# Altium footprint library Connector_Samtec_HSEC8.PcbLib: 133 footprints (part 5 of 9)
Each footprint in its own frame and in the unit in brackets; x right, y up, seen from the top. Pads: shape width x height; smd on the part's side, far side on the other; paste and mask are expansions set on the pad; w line width, h text height; cw(c..) or ccw(c..) is an arc to the next point about the centre after c.
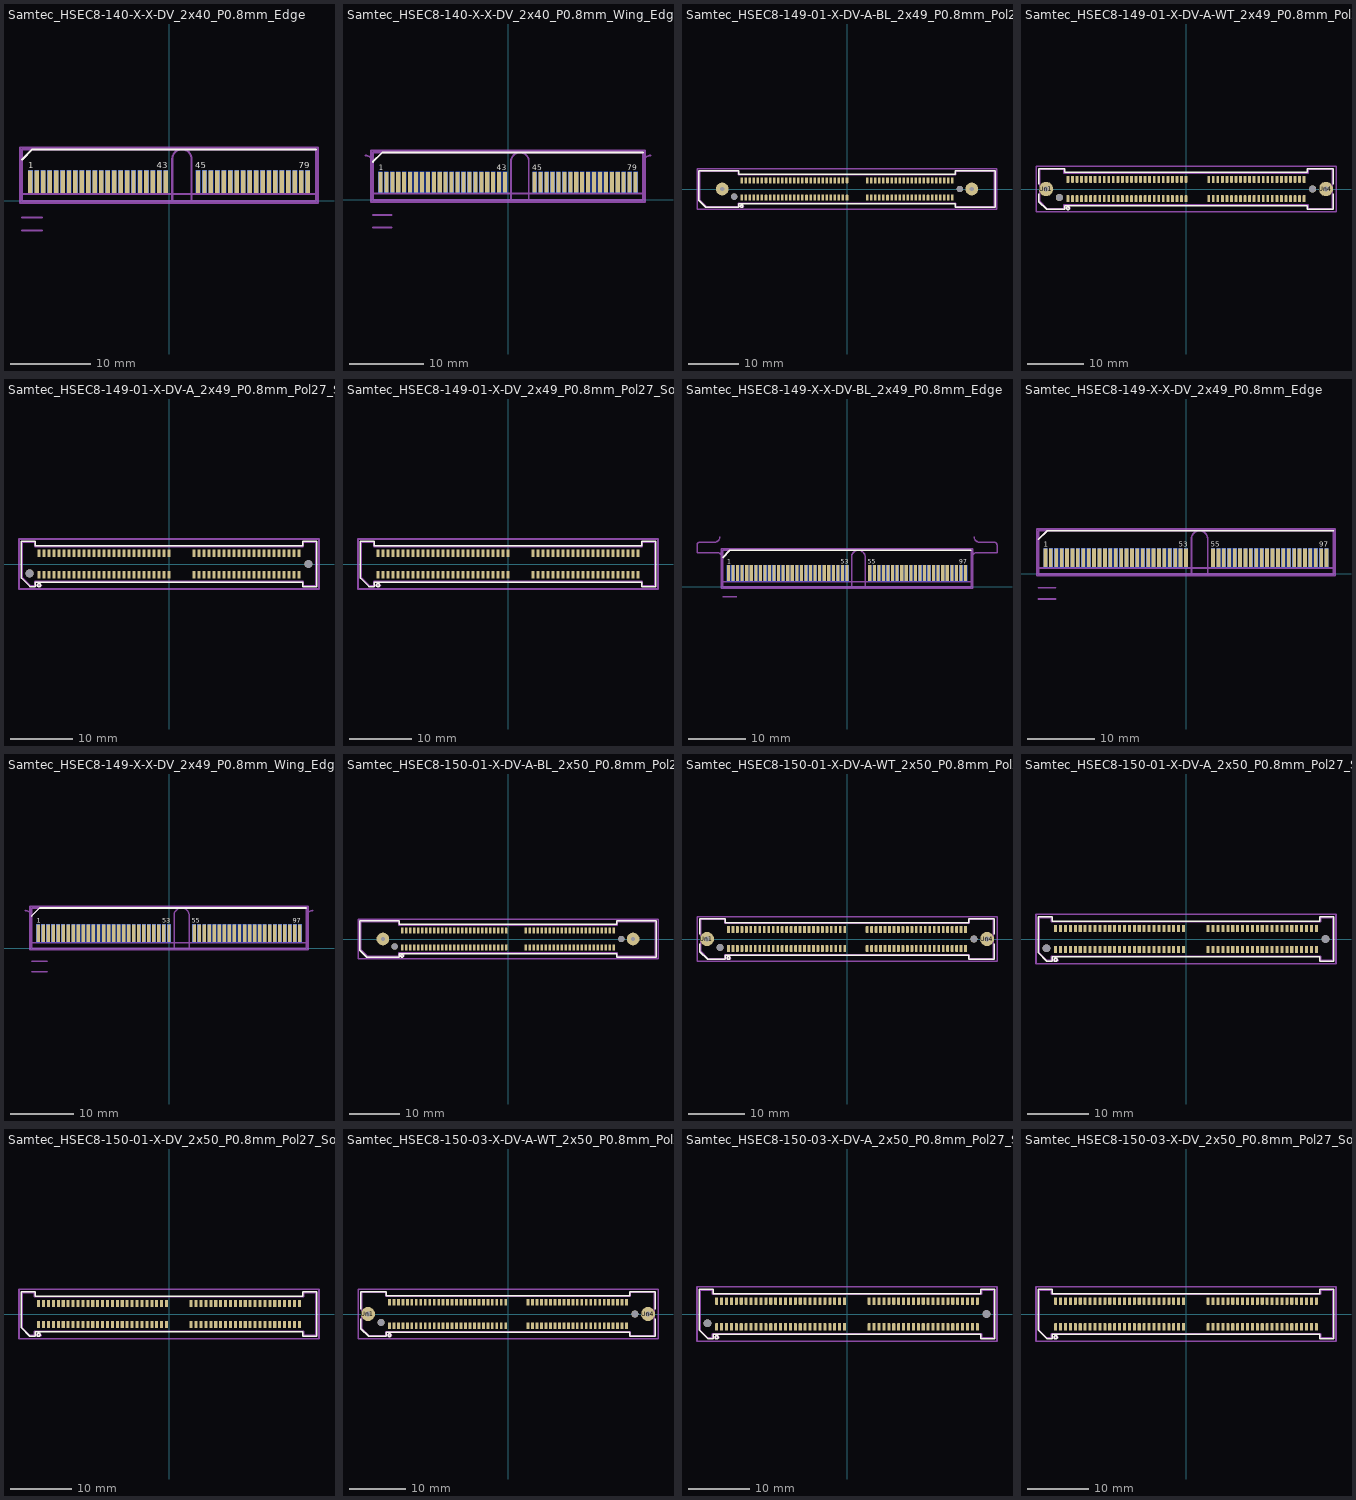
[diagram p4: the footprints below, top view; thin cyan lines are the x and y axes]

## Samtec_HSEC8-140-X-X-DV_2x40_P0.8mm_Edge [mm]
pads (80):
  rect 0.55x2.8 smd: 1(-17.2,2.4) 3(-16.4,2.4) 5(-15.6,2.4) 7(-14.8,2.4) 9(-14,2.4) 11(-13.2,2.4) 13(-12.4,2.4) 15(-11.6,2.4) 17(-10.8,2.4) 19(-10,2.4) 21(-9.2,2.4) 23(-8.4,2.4) 25(-7.6,2.4) 27(-6.8,2.4) 29(-6,2.4) 31(-5.2,2.4) 33(-4.4,2.4) 35(-3.6,2.4) 37(-2.8,2.4) 39(-2,2.4) 41(-1.2,2.4) 43(-0.4,2.4) 45(3.6,2.4) 47(4.4,2.4) 49(5.2,2.4) 51(6,2.4) 53(6.8,2.4) 55(7.6,2.4) 57(8.4,2.4) 59(9.2,2.4) 61(10,2.4) 63(10.8,2.4) 65(11.6,2.4) 67(12.4,2.4) 69(13.2,2.4) 71(14,2.4) 73(14.8,2.4) 75(15.6,2.4) 77(16.4,2.4) 79(17.2,2.4)
  rect 0.55x2.8 smd far side: 2(-17.2,2.4) 4(-16.4,2.4) 6(-15.6,2.4) 8(-14.8,2.4) 10(-14,2.4) 12(-13.2,2.4) 14(-12.4,2.4) 16(-11.6,2.4) 18(-10.8,2.4) 20(-10,2.4) 22(-9.2,2.4) 24(-8.4,2.4) 26(-7.6,2.4) 28(-6.8,2.4) 30(-6,2.4) 32(-5.2,2.4) 34(-4.4,2.4) 36(-3.6,2.4) 38(-2.8,2.4) 40(-2,2.4) 42(-1.2,2.4) 44(-0.4,2.4) 46(3.6,2.4) 48(4.4,2.4) 50(5.2,2.4) 52(6,2.4) 54(6.8,2.4) 56(7.6,2.4) 58(8.4,2.4) 60(9.2,2.4) 62(10,2.4) 64(10.8,2.4) 66(11.6,2.4) 68(12.4,2.4) 70(13.2,2.4) 72(14,2.4) 74(14.8,2.4) 76(15.6,2.4) 78(16.4,2.4) 80(17.2,2.4)
F.SilkS:
  lines w0.254: -18.225,5.13 -16.955,6.4 18.225,6.4
  text "79" at 16.109,4.025 h0.75
  text "45" at 3.241,4.025 h0.75
  text "43" at -1.509,4.025 h0.75
  text "1" at -17.439,4.025 h0.75
B.SilkS:
  lines w0.254: -18.225,6.4 18.225,6.4
  text "80" at 17.559,4.025 h0.75
  text "46" at 4.691,4.025 h0.75
  text "44" at -0.023,4.025 h0.75
  text "2" at -16.8,4.025 h0.75
Top Assembly:
  lines w0.254: -18.225,0.88 18.225,0.88 ; -18.225,0 18.225,0 18.225,6.4 -16.955,6.4 -18.225,5.13 -18.225,0
  text "'.Designator'" at -4.047,1.7 h1
Bottom Assembly:
  lines w0.254: -18.225,0.88 18.225,0.88 ; -18.225,0 18.225,0 18.225,6.4 -18.225,6.4 -18.225,0
Top Courtyard:
  lines w0.254: -18.48,-0.25 18.48,-0.25 18.48,6.65 -18.48,6.65 -18.48,-0.25
Bottom Courtyard:
  lines w0.254: -18.48,-0.25 18.48,-0.25 18.48,6.65 -18.48,6.65 -18.48,-0.25
Top Designator:
  text ".Designator" at -7.618,0.475 h1.52
Board Shape:
  lines w0.254: -18.225,5 -18.225,0 0.405,0 0.405,5.2 cw(c1.605,5.2) 2.805,5.2 2.805,0 18.225,0 18.225,5
Cmts.User:
  lines w0.254: -18.225,-3.69 -15.725,-3.69 ; -18.225,-2.05 -15.725,-2.05
  text "mated PCB distance: 3.69 mm (max)" at -15.63,-4.411 h0.75
  text "mated PCB distance: 2.05 mm (min)" at -15.63,-2.771 h0.75
  text "Chamfer 30 degree 0.45 mm" at -7.868,-0.21 h0.75

## Samtec_HSEC8-140-X-X-DV_2x40_P0.8mm_Wing_Edge [mm]
pads (80):
  rect 0.55x2.8 smd: 1(-17.2,2.4) 3(-16.4,2.4) 5(-15.6,2.4) 7(-14.8,2.4) 9(-14,2.4) 11(-13.2,2.4) 13(-12.4,2.4) 15(-11.6,2.4) 17(-10.8,2.4) 19(-10,2.4) 21(-9.2,2.4) 23(-8.4,2.4) 25(-7.6,2.4) 27(-6.8,2.4) 29(-6,2.4) 31(-5.2,2.4) 33(-4.4,2.4) 35(-3.6,2.4) 37(-2.8,2.4) 39(-2,2.4) 41(-1.2,2.4) 43(-0.4,2.4) 45(3.6,2.4) 47(4.4,2.4) 49(5.2,2.4) 51(6,2.4) 53(6.8,2.4) 55(7.6,2.4) 57(8.4,2.4) 59(9.2,2.4) 61(10,2.4) 63(10.8,2.4) 65(11.6,2.4) 67(12.4,2.4) 69(13.2,2.4) 71(14,2.4) 73(14.8,2.4) 75(15.6,2.4) 77(16.4,2.4) 79(17.2,2.4)
  rect 0.55x2.8 smd far side: 2(-17.2,2.4) 4(-16.4,2.4) 6(-15.6,2.4) 8(-14.8,2.4) 10(-14,2.4) 12(-13.2,2.4) 14(-12.4,2.4) 16(-11.6,2.4) 18(-10.8,2.4) 20(-10,2.4) 22(-9.2,2.4) 24(-8.4,2.4) 26(-7.6,2.4) 28(-6.8,2.4) 30(-6,2.4) 32(-5.2,2.4) 34(-4.4,2.4) 36(-3.6,2.4) 38(-2.8,2.4) 40(-2,2.4) 42(-1.2,2.4) 44(-0.4,2.4) 46(3.6,2.4) 48(4.4,2.4) 50(5.2,2.4) 52(6,2.4) 54(6.8,2.4) 56(7.6,2.4) 58(8.4,2.4) 60(9.2,2.4) 62(10,2.4) 64(10.8,2.4) 66(11.6,2.4) 68(12.4,2.4) 70(13.2,2.4) 72(14,2.4) 74(14.8,2.4) 76(15.6,2.4) 78(16.4,2.4) 80(17.2,2.4)
F.SilkS:
  lines w0.254: -18.225,5.13 -16.955,6.4 18.225,6.4
  text "79" at 16.109,4.025 h0.75
  text "45" at 3.241,4.025 h0.75
  text "43" at -1.509,4.025 h0.75
  text "1" at -17.439,4.025 h0.75
B.SilkS:
  lines w0.254: -18.225,6.4 18.225,6.4
  text "80" at 17.559,4.025 h0.75
  text "46" at 4.691,4.025 h0.75
  text "44" at -0.023,4.025 h0.75
  text "2" at -16.8,4.025 h0.75
Top Assembly:
  lines w0.254: -18.225,0.88 18.225,0.88 ; -18.225,0 18.225,0 18.225,6.4 -16.955,6.4 -18.225,5.13 -18.225,0
  text "'.Designator'" at -4.047,1.7 h1
Bottom Assembly:
  lines w0.254: -18.225,0.88 18.225,0.88 ; -18.225,0 18.225,0 18.225,6.4 -18.225,6.4 -18.225,0
Top Courtyard:
  lines w0.254: -18.48,-0.25 18.48,-0.25 18.48,6.65 -18.48,6.65 -18.48,-0.25
Bottom Courtyard:
  lines w0.254: -18.48,-0.25 18.48,-0.25 18.48,6.65 -18.48,6.65 -18.48,-0.25
Top Designator:
  text ".Designator" at -7.618,0.475 h1.52
Board Shape:
  lines w0.254: -19.225,6 cw(c-19.225,5) -18.225,5 -18.225,0 0.405,0 0.405,5.2 cw(c1.605,5.2) 2.805,5.2 2.805,0 18.225,0 18.225,5 cw(c19.225,5) 19.225,6
Cmts.User:
  lines w0.254: -18.225,-3.69 -15.725,-3.69 ; -18.225,-2.05 -15.725,-2.05
  text "mated PCB distance: 3.69 mm (max)" at -15.63,-4.411 h0.75
  text "mated PCB distance: 2.05 mm (min)" at -15.63,-2.771 h0.75
  text "Chamfer 30 degree 0.45 mm" at -7.868,-0.21 h0.75

## Samtec_HSEC8-149-01-X-DV-A-BL_2x49_P0.8mm_Pol27_Socket_WeldTabs_BoardLocks [mm]
pads (102):
  rrect25% 0.5x1.2 smd: 1(-20.8,-1.7) 2(-20.8,1.7) 3(-20,-1.7) 4(-20,1.7) 5(-19.2,-1.7) 6(-19.2,1.7) 7(-18.4,-1.7) 8(-18.4,1.7) 9(-17.6,-1.7) 10(-17.6,1.7) 11(-16.8,-1.7) 12(-16.8,1.7) 13(-16,-1.7) 14(-16,1.7) 15(-15.2,-1.7) 16(-15.2,1.7) 17(-14.4,-1.7) 18(-14.4,1.7) 19(-13.6,-1.7) 20(-13.6,1.7) 21(-12.8,-1.7) 22(-12.8,1.7) 23(-12,-1.7) 24(-12,1.7) 25(-11.2,-1.7) 26(-11.2,1.7) 27(-10.4,-1.7) 28(-10.4,1.7) 29(-9.6,-1.7) 30(-9.6,1.7) 31(-8.8,-1.7) 32(-8.8,1.7) 33(-8,-1.7) 34(-8,1.7) 35(-7.2,-1.7) 36(-7.2,1.7) 37(-6.4,-1.7) 38(-6.4,1.7) 39(-5.6,-1.7) 40(-5.6,1.7) 41(-4.8,-1.7) 42(-4.8,1.7) 43(-4,-1.7) 44(-4,1.7) 45(-3.2,-1.7) 46(-3.2,1.7) 47(-2.4,-1.7) 48(-2.4,1.7) 49(-1.6,-1.7) 50(-1.6,1.7) 51(-0.8,-1.7) 52(-0.8,1.7) 53(0,-1.7) 54(0,1.7) 55(4,-1.7) 56(4,1.7) 57(4.8,-1.7) 58(4.8,1.7) 59(5.6,-1.7) 60(5.6,1.7) 61(6.4,-1.7) 62(6.4,1.7) 63(7.2,-1.7) 64(7.2,1.7) 65(8,-1.7) 66(8,1.7) 67(8.8,-1.7) 68(8.8,1.7) 69(9.6,-1.7) 70(9.6,1.7) 71(10.4,-1.7) 72(10.4,1.7) 73(11.2,-1.7) 74(11.2,1.7) 75(12,-1.7) 76(12,1.7) 77(12.8,-1.7) 78(12.8,1.7) 79(13.6,-1.7) 80(13.6,1.7) 81(14.4,-1.7) 82(14.4,1.7) 83(15.2,-1.7) 84(15.2,1.7) 85(16,-1.7) 86(16,1.7) 87(16.8,-1.7) 88(16.8,1.7) 89(17.6,-1.7) 90(17.6,1.7) 91(18.4,-1.7) 92(18.4,1.7) 93(19.2,-1.7) 94(19.2,1.7) 95(20,-1.7) 96(20,1.7) 97(20.8,-1.7) 98(20.8,1.7)
  round 2.54 hole 0.84: Un1(-24.65,0) Un4(24.65,0)
  round 1.27 hole 1.27: Un2(-22.3,-1.5) Un3(22.3,0)
F.SilkS:
  circle w0.254: c-20.8,-3.4 r0.25
  lines w0.254: -29.235,-2.246 -27.871,-3.61 -21.39,-3.61 -21.39,-2.91 21.39,-2.91 21.39,-3.61 29.235,-3.61 29.235,3.61 21.39,3.61 21.39,2.91 -21.39,2.91 -21.39,3.61 -29.235,3.61 -29.235,-2.246
Top Assembly:
  lines w0.254: -29.125,-2.2 -27.825,-3.5 -21.5,-3.5 -21.5,-2.8 21.5,-2.8 21.5,-3.5 29.125,-3.5 29.125,3.5 21.5,3.5 21.5,2.8 -21.5,2.8 -21.5,3.5 -29.125,3.5 -29.125,-2.2 ; -21.2,-3.5 -20.4,-3.5 -20.8,-2.86 -21.2,-3.5
  text "'.Designator'" at -4.047,-0.84 h1
Top Courtyard:
  lines w0.254: -29.63,-4 29.63,-4 29.63,4 -29.63,4 -29.63,-4
Top Designator:
  text ".Designator" at -7.618,-0.508 h1.52

## Samtec_HSEC8-149-01-X-DV-A-WT_2x49_P0.8mm_Pol27_Socket_WeldTabs [mm]
pads (102):
  rrect25% 0.5x1.2 smd: 1(-20.8,-1.7) 2(-20.8,1.7) 3(-20,-1.7) 4(-20,1.7) 5(-19.2,-1.7) 6(-19.2,1.7) 7(-18.4,-1.7) 8(-18.4,1.7) 9(-17.6,-1.7) 10(-17.6,1.7) 11(-16.8,-1.7) 12(-16.8,1.7) 13(-16,-1.7) 14(-16,1.7) 15(-15.2,-1.7) 16(-15.2,1.7) 17(-14.4,-1.7) 18(-14.4,1.7) 19(-13.6,-1.7) 20(-13.6,1.7) 21(-12.8,-1.7) 22(-12.8,1.7) 23(-12,-1.7) 24(-12,1.7) 25(-11.2,-1.7) 26(-11.2,1.7) 27(-10.4,-1.7) 28(-10.4,1.7) 29(-9.6,-1.7) 30(-9.6,1.7) 31(-8.8,-1.7) 32(-8.8,1.7) 33(-8,-1.7) 34(-8,1.7) 35(-7.2,-1.7) 36(-7.2,1.7) 37(-6.4,-1.7) 38(-6.4,1.7) 39(-5.6,-1.7) 40(-5.6,1.7) 41(-4.8,-1.7) 42(-4.8,1.7) 43(-4,-1.7) 44(-4,1.7) 45(-3.2,-1.7) 46(-3.2,1.7) 47(-2.4,-1.7) 48(-2.4,1.7) 49(-1.6,-1.7) 50(-1.6,1.7) 51(-0.8,-1.7) 52(-0.8,1.7) 53(0,-1.7) 54(0,1.7) 55(4,-1.7) 56(4,1.7) 57(4.8,-1.7) 58(4.8,1.7) 59(5.6,-1.7) 60(5.6,1.7) 61(6.4,-1.7) 62(6.4,1.7) 63(7.2,-1.7) 64(7.2,1.7) 65(8,-1.7) 66(8,1.7) 67(8.8,-1.7) 68(8.8,1.7) 69(9.6,-1.7) 70(9.6,1.7) 71(10.4,-1.7) 72(10.4,1.7) 73(11.2,-1.7) 74(11.2,1.7) 75(12,-1.7) 76(12,1.7) 77(12.8,-1.7) 78(12.8,1.7) 79(13.6,-1.7) 80(13.6,1.7) 81(14.4,-1.7) 82(14.4,1.7) 83(15.2,-1.7) 84(15.2,1.7) 85(16,-1.7) 86(16,1.7) 87(16.8,-1.7) 88(16.8,1.7) 89(17.6,-1.7) 90(17.6,1.7) 91(18.4,-1.7) 92(18.4,1.7) 93(19.2,-1.7) 94(19.2,1.7) 95(20,-1.7) 96(20,1.7) 97(20.8,-1.7) 98(20.8,1.7)
  round 2.54 hole 0.84: Un1(-24.65,0) Un4(24.65,0)
  round 1.27 hole 1.27: Un2(-22.3,-1.5) Un3(22.3,0)
F.SilkS:
  circle w0.254: c-20.8,-3.4 r0.25
  lines w0.254: -25.91,-0.868 -25.91,-2.246 -24.546,-3.61 -21.39,-3.61 -21.39,-2.91 21.39,-2.91 21.39,-3.61 25.91,-3.61 25.91,-0.868 ; -25.91,0.868 -25.91,3.61 -21.39,3.61 -21.39,2.91 21.39,2.91 21.39,3.61 25.91,3.61 25.91,0.868
Top Assembly:
  lines w0.254: -25.8,-2.2 -24.5,-3.5 -21.5,-3.5 -21.5,-2.8 21.5,-2.8 21.5,-3.5 25.8,-3.5 25.8,3.5 21.5,3.5 21.5,2.8 -21.5,2.8 -21.5,3.5 -25.8,3.5 -25.8,-2.2 ; -21.2,-3.5 -20.4,-3.5 -20.8,-2.86 -21.2,-3.5
  text "'.Designator'" at -4.047,-0.84 h1
Top Courtyard:
  lines w0.254: -26.42,-4 26.42,-4 26.42,4 -26.42,4 -26.42,-4
Top Designator:
  text ".Designator" at -7.618,-0.508 h1.52

## Samtec_HSEC8-149-01-X-DV-A_2x49_P0.8mm_Pol27_Socket_AlignmentPins [mm]
pads (100):
  rrect25% 0.5x1.2 smd: 1(-20.8,-1.7) 2(-20.8,1.7) 3(-20,-1.7) 4(-20,1.7) 5(-19.2,-1.7) 6(-19.2,1.7) 7(-18.4,-1.7) 8(-18.4,1.7) 9(-17.6,-1.7) 10(-17.6,1.7) 11(-16.8,-1.7) 12(-16.8,1.7) 13(-16,-1.7) 14(-16,1.7) 15(-15.2,-1.7) 16(-15.2,1.7) 17(-14.4,-1.7) 18(-14.4,1.7) 19(-13.6,-1.7) 20(-13.6,1.7) 21(-12.8,-1.7) 22(-12.8,1.7) 23(-12,-1.7) 24(-12,1.7) 25(-11.2,-1.7) 26(-11.2,1.7) 27(-10.4,-1.7) 28(-10.4,1.7) 29(-9.6,-1.7) 30(-9.6,1.7) 31(-8.8,-1.7) 32(-8.8,1.7) 33(-8,-1.7) 34(-8,1.7) 35(-7.2,-1.7) 36(-7.2,1.7) 37(-6.4,-1.7) 38(-6.4,1.7) 39(-5.6,-1.7) 40(-5.6,1.7) 41(-4.8,-1.7) 42(-4.8,1.7) 43(-4,-1.7) 44(-4,1.7) 45(-3.2,-1.7) 46(-3.2,1.7) 47(-2.4,-1.7) 48(-2.4,1.7) 49(-1.6,-1.7) 50(-1.6,1.7) 51(-0.8,-1.7) 52(-0.8,1.7) 53(0,-1.7) 54(0,1.7) 55(4,-1.7) 56(4,1.7) 57(4.8,-1.7) 58(4.8,1.7) 59(5.6,-1.7) 60(5.6,1.7) 61(6.4,-1.7) 62(6.4,1.7) 63(7.2,-1.7) 64(7.2,1.7) 65(8,-1.7) 66(8,1.7) 67(8.8,-1.7) 68(8.8,1.7) 69(9.6,-1.7) 70(9.6,1.7) 71(10.4,-1.7) 72(10.4,1.7) 73(11.2,-1.7) 74(11.2,1.7) 75(12,-1.7) 76(12,1.7) 77(12.8,-1.7) 78(12.8,1.7) 79(13.6,-1.7) 80(13.6,1.7) 81(14.4,-1.7) 82(14.4,1.7) 83(15.2,-1.7) 84(15.2,1.7) 85(16,-1.7) 86(16,1.7) 87(16.8,-1.7) 88(16.8,1.7) 89(17.6,-1.7) 90(17.6,1.7) 91(18.4,-1.7) 92(18.4,1.7) 93(19.2,-1.7) 94(19.2,1.7) 95(20,-1.7) 96(20,1.7) 97(20.8,-1.7) 98(20.8,1.7)
  round 1.27 hole 1.27: Un1(-22.3,-1.5) Un2(22.3,0)
F.SilkS:
  circle w0.254: c-20.8,-3.4 r0.25
  lines w0.254: -23.61,-2.246 -22.246,-3.61 -21.39,-3.61 -21.39,-2.91 21.39,-2.91 21.39,-3.61 23.61,-3.61 23.61,3.61 21.39,3.61 21.39,2.91 -21.39,2.91 -21.39,3.61 -23.61,3.61 -23.61,-2.246
Top Assembly:
  lines w0.254: -23.5,-2.2 -22.2,-3.5 -21.5,-3.5 -21.5,-2.8 21.5,-2.8 21.5,-3.5 23.5,-3.5 23.5,3.5 21.5,3.5 21.5,2.8 -21.5,2.8 -21.5,3.5 -23.5,3.5 -23.5,-2.2 ; -21.2,-3.5 -20.4,-3.5 -20.8,-2.86 -21.2,-3.5
  text "'.Designator'" at -4.047,-0.84 h1
Top Courtyard:
  lines w0.254: -24,-4 24,-4 24,4 -24,4 -24,-4
Top Designator:
  text ".Designator" at -7.618,-0.508 h1.52

## Samtec_HSEC8-149-01-X-DV_2x49_P0.8mm_Pol27_Socket [mm]
pads (98):
  rrect25% 0.5x1.2 smd: 1(-20.8,-1.7) 2(-20.8,1.7) 3(-20,-1.7) 4(-20,1.7) 5(-19.2,-1.7) 6(-19.2,1.7) 7(-18.4,-1.7) 8(-18.4,1.7) 9(-17.6,-1.7) 10(-17.6,1.7) 11(-16.8,-1.7) 12(-16.8,1.7) 13(-16,-1.7) 14(-16,1.7) 15(-15.2,-1.7) 16(-15.2,1.7) 17(-14.4,-1.7) 18(-14.4,1.7) 19(-13.6,-1.7) 20(-13.6,1.7) 21(-12.8,-1.7) 22(-12.8,1.7) 23(-12,-1.7) 24(-12,1.7) 25(-11.2,-1.7) 26(-11.2,1.7) 27(-10.4,-1.7) 28(-10.4,1.7) 29(-9.6,-1.7) 30(-9.6,1.7) 31(-8.8,-1.7) 32(-8.8,1.7) 33(-8,-1.7) 34(-8,1.7) 35(-7.2,-1.7) 36(-7.2,1.7) 37(-6.4,-1.7) 38(-6.4,1.7) 39(-5.6,-1.7) 40(-5.6,1.7) 41(-4.8,-1.7) 42(-4.8,1.7) 43(-4,-1.7) 44(-4,1.7) 45(-3.2,-1.7) 46(-3.2,1.7) 47(-2.4,-1.7) 48(-2.4,1.7) 49(-1.6,-1.7) 50(-1.6,1.7) 51(-0.8,-1.7) 52(-0.8,1.7) 53(0,-1.7) 54(0,1.7) 55(4,-1.7) 56(4,1.7) 57(4.8,-1.7) 58(4.8,1.7) 59(5.6,-1.7) 60(5.6,1.7) 61(6.4,-1.7) 62(6.4,1.7) 63(7.2,-1.7) 64(7.2,1.7) 65(8,-1.7) 66(8,1.7) 67(8.8,-1.7) 68(8.8,1.7) 69(9.6,-1.7) 70(9.6,1.7) 71(10.4,-1.7) 72(10.4,1.7) 73(11.2,-1.7) 74(11.2,1.7) 75(12,-1.7) 76(12,1.7) 77(12.8,-1.7) 78(12.8,1.7) 79(13.6,-1.7) 80(13.6,1.7) 81(14.4,-1.7) 82(14.4,1.7) 83(15.2,-1.7) 84(15.2,1.7) 85(16,-1.7) 86(16,1.7) 87(16.8,-1.7) 88(16.8,1.7) 89(17.6,-1.7) 90(17.6,1.7) 91(18.4,-1.7) 92(18.4,1.7) 93(19.2,-1.7) 94(19.2,1.7) 95(20,-1.7) 96(20,1.7) 97(20.8,-1.7) 98(20.8,1.7)
F.SilkS:
  circle w0.254: c-20.8,-3.4 r0.25
  lines w0.254: -23.61,-2.246 -22.246,-3.61 -21.39,-3.61 -21.39,-2.91 21.39,-2.91 21.39,-3.61 23.61,-3.61 23.61,3.61 21.39,3.61 21.39,2.91 -21.39,2.91 -21.39,3.61 -23.61,3.61 -23.61,-2.246
Top Assembly:
  lines w0.254: -23.5,-2.2 -22.2,-3.5 -21.5,-3.5 -21.5,-2.8 21.5,-2.8 21.5,-3.5 23.5,-3.5 23.5,3.5 21.5,3.5 21.5,2.8 -21.5,2.8 -21.5,3.5 -23.5,3.5 -23.5,-2.2 ; -21.2,-3.5 -20.4,-3.5 -20.8,-2.86 -21.2,-3.5
  text "'.Designator'" at -4.047,-0.84 h1
Top Courtyard:
  lines w0.254: -24,-4 24,-4 24,4 -24,4 -24,-4
Top Designator:
  text ".Designator" at -7.618,-0.508 h1.52

## Samtec_HSEC8-149-X-X-DV-BL_2x49_P0.8mm_Edge [mm]
pads (98):
  rect 0.55x2.8 smd: 1(-20.8,2.4) 3(-20,2.4) 5(-19.2,2.4) 7(-18.4,2.4) 9(-17.6,2.4) 11(-16.8,2.4) 13(-16,2.4) 15(-15.2,2.4) 17(-14.4,2.4) 19(-13.6,2.4) 21(-12.8,2.4) 23(-12,2.4) 25(-11.2,2.4) 27(-10.4,2.4) 29(-9.6,2.4) 31(-8.8,2.4) 33(-8,2.4) 35(-7.2,2.4) 37(-6.4,2.4) 39(-5.6,2.4) 41(-4.8,2.4) 43(-4,2.4) 45(-3.2,2.4) 47(-2.4,2.4) 49(-1.6,2.4) 51(-0.8,2.4) 53(0,2.4) 55(4,2.4) 57(4.8,2.4) 59(5.6,2.4) 61(6.4,2.4) 63(7.2,2.4) 65(8,2.4) 67(8.8,2.4) 69(9.6,2.4) 71(10.4,2.4) 73(11.2,2.4) 75(12,2.4) 77(12.8,2.4) 79(13.6,2.4) 81(14.4,2.4) 83(15.2,2.4) 85(16,2.4) 87(16.8,2.4) 89(17.6,2.4) 91(18.4,2.4) 93(19.2,2.4) 95(20,2.4) 97(20.8,2.4)
  rect 0.55x2.8 smd far side: 2(-20.8,2.4) 4(-20,2.4) 6(-19.2,2.4) 8(-18.4,2.4) 10(-17.6,2.4) 12(-16.8,2.4) 14(-16,2.4) 16(-15.2,2.4) 18(-14.4,2.4) 20(-13.6,2.4) 22(-12.8,2.4) 24(-12,2.4) 26(-11.2,2.4) 28(-10.4,2.4) 30(-9.6,2.4) 32(-8.8,2.4) 34(-8,2.4) 36(-7.2,2.4) 38(-6.4,2.4) 40(-5.6,2.4) 42(-4.8,2.4) 44(-4,2.4) 46(-3.2,2.4) 48(-2.4,2.4) 50(-1.6,2.4) 52(-0.8,2.4) 54(0,2.4) 56(4,2.4) 58(4.8,2.4) 60(5.6,2.4) 62(6.4,2.4) 64(7.2,2.4) 66(8,2.4) 68(8.8,2.4) 70(9.6,2.4) 72(10.4,2.4) 74(11.2,2.4) 76(12,2.4) 78(12.8,2.4) 80(13.6,2.4) 82(14.4,2.4) 84(15.2,2.4) 86(16,2.4) 88(16.8,2.4) 90(17.6,2.4) 92(18.4,2.4) 94(19.2,2.4) 96(20,2.4) 98(20.8,2.4)
F.SilkS:
  lines w0.254: -21.825,5.13 -20.555,6.4 21.825,6.4
  text "97" at 19.691,4.025 h0.75
  text "55" at 3.641,4.025 h0.75
  text "53" at -1.109,4.025 h0.75
  text "1" at -21.039,4.025 h0.75
B.SilkS:
  lines w0.254: -21.825,6.4 21.825,6.4
  text "98" at 21.159,4.025 h0.75
  text "56" at 5.091,4.025 h0.75
  text "54" at 0.377,4.025 h0.75
  text "2" at -20.4,4.025 h0.75
Top Assembly:
  lines w0.254: -21.825,0.88 21.825,0.88 ; -21.825,0 21.825,0 21.825,6.4 -20.555,6.4 -21.825,5.13 -21.825,0
  text "'.Designator'" at -4.047,1.7 h1
Bottom Assembly:
  lines w0.254: -21.825,0.88 21.825,0.88 ; -21.825,0 21.825,0 21.825,6.4 -21.825,6.4 -21.825,0
Top Courtyard:
  lines w0.254: -22.08,-0.25 22.08,-0.25 22.08,6.65 -22.08,6.65 -22.08,-0.25
Bottom Courtyard:
  lines w0.254: -22.08,-0.25 22.08,-0.25 22.08,6.65 -22.08,6.65 -22.08,-0.25
Top Designator:
  text ".Designator" at -7.618,2.485 h1.52
Board Shape:
  lines w0.254: -22.325,8.78 cw(c-23.325,8.78) -23.325,7.78 -25.925,7.78 ccw(c-25.925,7.38) -26.325,7.38 -26.325,6 -22.825,6 cw(c-22.825,5) -21.825,5 -21.825,0 0.805,0 0.805,5.2 cw(c2.005,5.2) 3.205,5.2 3.205,0 21.825,0 21.825,5 cw(c22.825,5) 22.825,6 26.325,6 26.325,7.38 ccw(c25.925,7.38) 25.925,7.78 23.325,7.78 cw(c23.325,8.78) 22.325,8.78
Cmts.User:
  lines w0.254: -21.825,-1.8 -19.325,-1.8
  text "mated PCB distance: 1.80 mm (ref)" at -19.23,-2.521 h0.75
  text "Chamfer 30 degree 0.45 mm" at -7.868,-0.21 h0.75

## Samtec_HSEC8-149-X-X-DV_2x49_P0.8mm_Edge [mm]
pads (98):
  rect 0.55x2.8 smd: 1(-20.8,2.4) 3(-20,2.4) 5(-19.2,2.4) 7(-18.4,2.4) 9(-17.6,2.4) 11(-16.8,2.4) 13(-16,2.4) 15(-15.2,2.4) 17(-14.4,2.4) 19(-13.6,2.4) 21(-12.8,2.4) 23(-12,2.4) 25(-11.2,2.4) 27(-10.4,2.4) 29(-9.6,2.4) 31(-8.8,2.4) 33(-8,2.4) 35(-7.2,2.4) 37(-6.4,2.4) 39(-5.6,2.4) 41(-4.8,2.4) 43(-4,2.4) 45(-3.2,2.4) 47(-2.4,2.4) 49(-1.6,2.4) 51(-0.8,2.4) 53(0,2.4) 55(4,2.4) 57(4.8,2.4) 59(5.6,2.4) 61(6.4,2.4) 63(7.2,2.4) 65(8,2.4) 67(8.8,2.4) 69(9.6,2.4) 71(10.4,2.4) 73(11.2,2.4) 75(12,2.4) 77(12.8,2.4) 79(13.6,2.4) 81(14.4,2.4) 83(15.2,2.4) 85(16,2.4) 87(16.8,2.4) 89(17.6,2.4) 91(18.4,2.4) 93(19.2,2.4) 95(20,2.4) 97(20.8,2.4)
  rect 0.55x2.8 smd far side: 2(-20.8,2.4) 4(-20,2.4) 6(-19.2,2.4) 8(-18.4,2.4) 10(-17.6,2.4) 12(-16.8,2.4) 14(-16,2.4) 16(-15.2,2.4) 18(-14.4,2.4) 20(-13.6,2.4) 22(-12.8,2.4) 24(-12,2.4) 26(-11.2,2.4) 28(-10.4,2.4) 30(-9.6,2.4) 32(-8.8,2.4) 34(-8,2.4) 36(-7.2,2.4) 38(-6.4,2.4) 40(-5.6,2.4) 42(-4.8,2.4) 44(-4,2.4) 46(-3.2,2.4) 48(-2.4,2.4) 50(-1.6,2.4) 52(-0.8,2.4) 54(0,2.4) 56(4,2.4) 58(4.8,2.4) 60(5.6,2.4) 62(6.4,2.4) 64(7.2,2.4) 66(8,2.4) 68(8.8,2.4) 70(9.6,2.4) 72(10.4,2.4) 74(11.2,2.4) 76(12,2.4) 78(12.8,2.4) 80(13.6,2.4) 82(14.4,2.4) 84(15.2,2.4) 86(16,2.4) 88(16.8,2.4) 90(17.6,2.4) 92(18.4,2.4) 94(19.2,2.4) 96(20,2.4) 98(20.8,2.4)
F.SilkS:
  lines w0.254: -21.825,5.13 -20.555,6.4 21.825,6.4
  text "97" at 19.691,4.025 h0.75
  text "55" at 3.641,4.025 h0.75
  text "53" at -1.109,4.025 h0.75
  text "1" at -21.039,4.025 h0.75
B.SilkS:
  lines w0.254: -21.825,6.4 21.825,6.4
  text "98" at 21.159,4.025 h0.75
  text "56" at 5.091,4.025 h0.75
  text "54" at 0.377,4.025 h0.75
  text "2" at -20.4,4.025 h0.75
Top Assembly:
  lines w0.254: -21.825,0.88 21.825,0.88 ; -21.825,0 21.825,0 21.825,6.4 -20.555,6.4 -21.825,5.13 -21.825,0
  text "'.Designator'" at -4.047,1.7 h1
Bottom Assembly:
  lines w0.254: -21.825,0.88 21.825,0.88 ; -21.825,0 21.825,0 21.825,6.4 -21.825,6.4 -21.825,0
Top Courtyard:
  lines w0.254: -22.08,-0.25 22.08,-0.25 22.08,6.65 -22.08,6.65 -22.08,-0.25
Bottom Courtyard:
  lines w0.254: -22.08,-0.25 22.08,-0.25 22.08,6.65 -22.08,6.65 -22.08,-0.25
Top Designator:
  text ".Designator" at -7.618,0.475 h1.52
Board Shape:
  lines w0.254: -21.825,5 -21.825,0 0.805,0 0.805,5.2 cw(c2.005,5.2) 3.205,5.2 3.205,0 21.825,0 21.825,5
Cmts.User:
  lines w0.254: -21.825,-3.69 -19.325,-3.69 ; -21.825,-2.05 -19.325,-2.05
  text "mated PCB distance: 3.69 mm (max)" at -19.23,-4.411 h0.75
  text "mated PCB distance: 2.05 mm (min)" at -19.23,-2.771 h0.75
  text "Chamfer 30 degree 0.45 mm" at -7.868,-0.21 h0.75

## Samtec_HSEC8-149-X-X-DV_2x49_P0.8mm_Wing_Edge [mm]
pads (98):
  rect 0.55x2.8 smd: 1(-20.8,2.4) 3(-20,2.4) 5(-19.2,2.4) 7(-18.4,2.4) 9(-17.6,2.4) 11(-16.8,2.4) 13(-16,2.4) 15(-15.2,2.4) 17(-14.4,2.4) 19(-13.6,2.4) 21(-12.8,2.4) 23(-12,2.4) 25(-11.2,2.4) 27(-10.4,2.4) 29(-9.6,2.4) 31(-8.8,2.4) 33(-8,2.4) 35(-7.2,2.4) 37(-6.4,2.4) 39(-5.6,2.4) 41(-4.8,2.4) 43(-4,2.4) 45(-3.2,2.4) 47(-2.4,2.4) 49(-1.6,2.4) 51(-0.8,2.4) 53(0,2.4) 55(4,2.4) 57(4.8,2.4) 59(5.6,2.4) 61(6.4,2.4) 63(7.2,2.4) 65(8,2.4) 67(8.8,2.4) 69(9.6,2.4) 71(10.4,2.4) 73(11.2,2.4) 75(12,2.4) 77(12.8,2.4) 79(13.6,2.4) 81(14.4,2.4) 83(15.2,2.4) 85(16,2.4) 87(16.8,2.4) 89(17.6,2.4) 91(18.4,2.4) 93(19.2,2.4) 95(20,2.4) 97(20.8,2.4)
  rect 0.55x2.8 smd far side: 2(-20.8,2.4) 4(-20,2.4) 6(-19.2,2.4) 8(-18.4,2.4) 10(-17.6,2.4) 12(-16.8,2.4) 14(-16,2.4) 16(-15.2,2.4) 18(-14.4,2.4) 20(-13.6,2.4) 22(-12.8,2.4) 24(-12,2.4) 26(-11.2,2.4) 28(-10.4,2.4) 30(-9.6,2.4) 32(-8.8,2.4) 34(-8,2.4) 36(-7.2,2.4) 38(-6.4,2.4) 40(-5.6,2.4) 42(-4.8,2.4) 44(-4,2.4) 46(-3.2,2.4) 48(-2.4,2.4) 50(-1.6,2.4) 52(-0.8,2.4) 54(0,2.4) 56(4,2.4) 58(4.8,2.4) 60(5.6,2.4) 62(6.4,2.4) 64(7.2,2.4) 66(8,2.4) 68(8.8,2.4) 70(9.6,2.4) 72(10.4,2.4) 74(11.2,2.4) 76(12,2.4) 78(12.8,2.4) 80(13.6,2.4) 82(14.4,2.4) 84(15.2,2.4) 86(16,2.4) 88(16.8,2.4) 90(17.6,2.4) 92(18.4,2.4) 94(19.2,2.4) 96(20,2.4) 98(20.8,2.4)
F.SilkS:
  lines w0.254: -21.825,5.13 -20.555,6.4 21.825,6.4
  text "97" at 19.691,4.025 h0.75
  text "55" at 3.641,4.025 h0.75
  text "53" at -1.109,4.025 h0.75
  text "1" at -21.039,4.025 h0.75
B.SilkS:
  lines w0.254: -21.825,6.4 21.825,6.4
  text "98" at 21.159,4.025 h0.75
  text "56" at 5.091,4.025 h0.75
  text "54" at 0.377,4.025 h0.75
  text "2" at -20.4,4.025 h0.75
Top Assembly:
  lines w0.254: -21.825,0.88 21.825,0.88 ; -21.825,0 21.825,0 21.825,6.4 -20.555,6.4 -21.825,5.13 -21.825,0
  text "'.Designator'" at -4.047,1.7 h1
Bottom Assembly:
  lines w0.254: -21.825,0.88 21.825,0.88 ; -21.825,0 21.825,0 21.825,6.4 -21.825,6.4 -21.825,0
Top Courtyard:
  lines w0.254: -22.08,-0.25 22.08,-0.25 22.08,6.65 -22.08,6.65 -22.08,-0.25
Bottom Courtyard:
  lines w0.254: -22.08,-0.25 22.08,-0.25 22.08,6.65 -22.08,6.65 -22.08,-0.25
Top Designator:
  text ".Designator" at -7.618,0.475 h1.52
Board Shape:
  lines w0.254: -22.825,6 cw(c-22.825,5) -21.825,5 -21.825,0 0.805,0 0.805,5.2 cw(c2.005,5.2) 3.205,5.2 3.205,0 21.825,0 21.825,5 cw(c22.825,5) 22.825,6
Cmts.User:
  lines w0.254: -21.825,-3.69 -19.325,-3.69 ; -21.825,-2.05 -19.325,-2.05
  text "mated PCB distance: 3.69 mm (max)" at -19.23,-4.411 h0.75
  text "mated PCB distance: 2.05 mm (min)" at -19.23,-2.771 h0.75
  text "Chamfer 30 degree 0.45 mm" at -7.868,-0.21 h0.75

## Samtec_HSEC8-150-01-X-DV-A-BL_2x50_P0.8mm_Pol27_Socket_WeldTabs_BoardLocks [mm]
pads (104):
  rrect25% 0.5x1.2 smd: 1(-21.2,-1.7) 2(-21.2,1.7) 3(-20.4,-1.7) 4(-20.4,1.7) 5(-19.6,-1.7) 6(-19.6,1.7) 7(-18.8,-1.7) 8(-18.8,1.7) 9(-18,-1.7) 10(-18,1.7) 11(-17.2,-1.7) 12(-17.2,1.7) 13(-16.4,-1.7) 14(-16.4,1.7) 15(-15.6,-1.7) 16(-15.6,1.7) 17(-14.8,-1.7) 18(-14.8,1.7) 19(-14,-1.7) 20(-14,1.7) 21(-13.2,-1.7) 22(-13.2,1.7) 23(-12.4,-1.7) 24(-12.4,1.7) 25(-11.6,-1.7) 26(-11.6,1.7) 27(-10.8,-1.7) 28(-10.8,1.7) 29(-10,-1.7) 30(-10,1.7) 31(-9.2,-1.7) 32(-9.2,1.7) 33(-8.4,-1.7) 34(-8.4,1.7) 35(-7.6,-1.7) 36(-7.6,1.7) 37(-6.8,-1.7) 38(-6.8,1.7) 39(-6,-1.7) 40(-6,1.7) 41(-5.2,-1.7) 42(-5.2,1.7) 43(-4.4,-1.7) 44(-4.4,1.7) 45(-3.6,-1.7) 46(-3.6,1.7) 47(-2.8,-1.7) 48(-2.8,1.7) 49(-2,-1.7) 50(-2,1.7) 51(-1.2,-1.7) 52(-1.2,1.7) 53(-0.4,-1.7) 54(-0.4,1.7) 55(3.6,-1.7) 56(3.6,1.7) 57(4.4,-1.7) 58(4.4,1.7) 59(5.2,-1.7) 60(5.2,1.7) 61(6,-1.7) 62(6,1.7) 63(6.8,-1.7) 64(6.8,1.7) 65(7.6,-1.7) 66(7.6,1.7) 67(8.4,-1.7) 68(8.4,1.7) 69(9.2,-1.7) 70(9.2,1.7) 71(10,-1.7) 72(10,1.7) 73(10.8,-1.7) 74(10.8,1.7) 75(11.6,-1.7) 76(11.6,1.7) 77(12.4,-1.7) 78(12.4,1.7) 79(13.2,-1.7) 80(13.2,1.7) 81(14,-1.7) 82(14,1.7) 83(14.8,-1.7) 84(14.8,1.7) 85(15.6,-1.7) 86(15.6,1.7) 87(16.4,-1.7) 88(16.4,1.7) 89(17.2,-1.7) 90(17.2,1.7) 91(18,-1.7) 92(18,1.7) 93(18.8,-1.7) 94(18.8,1.7) 95(19.6,-1.7) 96(19.6,1.7) 97(20.4,-1.7) 98(20.4,1.7) 99(21.2,-1.7) 100(21.2,1.7)
  round 2.54 hole 0.84: Un1(-25.05,0) Un4(25.05,0)
  round 1.27 hole 1.27: Un2(-22.7,-1.5) Un3(22.7,0)
F.SilkS:
  circle w0.254: c-21.2,-3.4 r0.25
  lines w0.254: -29.635,-2.246 -28.271,-3.61 -21.79,-3.61 -21.79,-2.91 21.79,-2.91 21.79,-3.61 29.635,-3.61 29.635,3.61 21.79,3.61 21.79,2.91 -21.79,2.91 -21.79,3.61 -29.635,3.61 -29.635,-2.246
Top Assembly:
  lines w0.254: -29.525,-2.2 -28.225,-3.5 -21.9,-3.5 -21.9,-2.8 21.9,-2.8 21.9,-3.5 29.525,-3.5 29.525,3.5 21.9,3.5 21.9,2.8 -21.9,2.8 -21.9,3.5 -29.525,3.5 -29.525,-2.2 ; -21.6,-3.5 -20.8,-3.5 -21.2,-2.86 -21.6,-3.5
  text "'.Designator'" at -4.047,-0.84 h1
Top Courtyard:
  lines w0.254: -30.03,-4 30.03,-4 30.03,4 -30.03,4 -30.03,-4
Top Designator:
  text ".Designator" at -7.618,-0.508 h1.52

## Samtec_HSEC8-150-01-X-DV-A-WT_2x50_P0.8mm_Pol27_Socket_WeldTabs [mm]
pads (104):
  rrect25% 0.5x1.2 smd: 1(-21.2,-1.7) 2(-21.2,1.7) 3(-20.4,-1.7) 4(-20.4,1.7) 5(-19.6,-1.7) 6(-19.6,1.7) 7(-18.8,-1.7) 8(-18.8,1.7) 9(-18,-1.7) 10(-18,1.7) 11(-17.2,-1.7) 12(-17.2,1.7) 13(-16.4,-1.7) 14(-16.4,1.7) 15(-15.6,-1.7) 16(-15.6,1.7) 17(-14.8,-1.7) 18(-14.8,1.7) 19(-14,-1.7) 20(-14,1.7) 21(-13.2,-1.7) 22(-13.2,1.7) 23(-12.4,-1.7) 24(-12.4,1.7) 25(-11.6,-1.7) 26(-11.6,1.7) 27(-10.8,-1.7) 28(-10.8,1.7) 29(-10,-1.7) 30(-10,1.7) 31(-9.2,-1.7) 32(-9.2,1.7) 33(-8.4,-1.7) 34(-8.4,1.7) 35(-7.6,-1.7) 36(-7.6,1.7) 37(-6.8,-1.7) 38(-6.8,1.7) 39(-6,-1.7) 40(-6,1.7) 41(-5.2,-1.7) 42(-5.2,1.7) 43(-4.4,-1.7) 44(-4.4,1.7) 45(-3.6,-1.7) 46(-3.6,1.7) 47(-2.8,-1.7) 48(-2.8,1.7) 49(-2,-1.7) 50(-2,1.7) 51(-1.2,-1.7) 52(-1.2,1.7) 53(-0.4,-1.7) 54(-0.4,1.7) 55(3.6,-1.7) 56(3.6,1.7) 57(4.4,-1.7) 58(4.4,1.7) 59(5.2,-1.7) 60(5.2,1.7) 61(6,-1.7) 62(6,1.7) 63(6.8,-1.7) 64(6.8,1.7) 65(7.6,-1.7) 66(7.6,1.7) 67(8.4,-1.7) 68(8.4,1.7) 69(9.2,-1.7) 70(9.2,1.7) 71(10,-1.7) 72(10,1.7) 73(10.8,-1.7) 74(10.8,1.7) 75(11.6,-1.7) 76(11.6,1.7) 77(12.4,-1.7) 78(12.4,1.7) 79(13.2,-1.7) 80(13.2,1.7) 81(14,-1.7) 82(14,1.7) 83(14.8,-1.7) 84(14.8,1.7) 85(15.6,-1.7) 86(15.6,1.7) 87(16.4,-1.7) 88(16.4,1.7) 89(17.2,-1.7) 90(17.2,1.7) 91(18,-1.7) 92(18,1.7) 93(18.8,-1.7) 94(18.8,1.7) 95(19.6,-1.7) 96(19.6,1.7) 97(20.4,-1.7) 98(20.4,1.7) 99(21.2,-1.7) 100(21.2,1.7)
  round 2.54 hole 0.84: Un1(-25.05,0) Un4(25.05,0)
  round 1.27 hole 1.27: Un2(-22.7,-1.5) Un3(22.7,0)
F.SilkS:
  circle w0.254: c-21.2,-3.4 r0.25
  lines w0.254: -26.31,-0.868 -26.31,-2.246 -24.946,-3.61 -21.79,-3.61 -21.79,-2.91 21.79,-2.91 21.79,-3.61 26.31,-3.61 26.31,-0.868 ; -26.31,0.868 -26.31,3.61 -21.79,3.61 -21.79,2.91 21.79,2.91 21.79,3.61 26.31,3.61 26.31,0.868
Top Assembly:
  lines w0.254: -26.2,-2.2 -24.9,-3.5 -21.9,-3.5 -21.9,-2.8 21.9,-2.8 21.9,-3.5 26.2,-3.5 26.2,3.5 21.9,3.5 21.9,2.8 -21.9,2.8 -21.9,3.5 -26.2,3.5 -26.2,-2.2 ; -21.6,-3.5 -20.8,-3.5 -21.2,-2.86 -21.6,-3.5
  text "'.Designator'" at -4.047,-0.84 h1
Top Courtyard:
  lines w0.254: -26.83,-4 26.83,-4 26.83,4 -26.83,4 -26.83,-4
Top Designator:
  text ".Designator" at -7.618,-0.508 h1.52

## Samtec_HSEC8-150-01-X-DV-A_2x50_P0.8mm_Pol27_Socket_AlignmentPins [mm]
pads (102):
  rrect25% 0.5x1.2 smd: 1(-21.2,-1.7) 2(-21.2,1.7) 3(-20.4,-1.7) 4(-20.4,1.7) 5(-19.6,-1.7) 6(-19.6,1.7) 7(-18.8,-1.7) 8(-18.8,1.7) 9(-18,-1.7) 10(-18,1.7) 11(-17.2,-1.7) 12(-17.2,1.7) 13(-16.4,-1.7) 14(-16.4,1.7) 15(-15.6,-1.7) 16(-15.6,1.7) 17(-14.8,-1.7) 18(-14.8,1.7) 19(-14,-1.7) 20(-14,1.7) 21(-13.2,-1.7) 22(-13.2,1.7) 23(-12.4,-1.7) 24(-12.4,1.7) 25(-11.6,-1.7) 26(-11.6,1.7) 27(-10.8,-1.7) 28(-10.8,1.7) 29(-10,-1.7) 30(-10,1.7) 31(-9.2,-1.7) 32(-9.2,1.7) 33(-8.4,-1.7) 34(-8.4,1.7) 35(-7.6,-1.7) 36(-7.6,1.7) 37(-6.8,-1.7) 38(-6.8,1.7) 39(-6,-1.7) 40(-6,1.7) 41(-5.2,-1.7) 42(-5.2,1.7) 43(-4.4,-1.7) 44(-4.4,1.7) 45(-3.6,-1.7) 46(-3.6,1.7) 47(-2.8,-1.7) 48(-2.8,1.7) 49(-2,-1.7) 50(-2,1.7) 51(-1.2,-1.7) 52(-1.2,1.7) 53(-0.4,-1.7) 54(-0.4,1.7) 55(3.6,-1.7) 56(3.6,1.7) 57(4.4,-1.7) 58(4.4,1.7) 59(5.2,-1.7) 60(5.2,1.7) 61(6,-1.7) 62(6,1.7) 63(6.8,-1.7) 64(6.8,1.7) 65(7.6,-1.7) 66(7.6,1.7) 67(8.4,-1.7) 68(8.4,1.7) 69(9.2,-1.7) 70(9.2,1.7) 71(10,-1.7) 72(10,1.7) 73(10.8,-1.7) 74(10.8,1.7) 75(11.6,-1.7) 76(11.6,1.7) 77(12.4,-1.7) 78(12.4,1.7) 79(13.2,-1.7) 80(13.2,1.7) 81(14,-1.7) 82(14,1.7) 83(14.8,-1.7) 84(14.8,1.7) 85(15.6,-1.7) 86(15.6,1.7) 87(16.4,-1.7) 88(16.4,1.7) 89(17.2,-1.7) 90(17.2,1.7) 91(18,-1.7) 92(18,1.7) 93(18.8,-1.7) 94(18.8,1.7) 95(19.6,-1.7) 96(19.6,1.7) 97(20.4,-1.7) 98(20.4,1.7) 99(21.2,-1.7) 100(21.2,1.7)
  round 1.27 hole 1.27: Un1(-22.7,-1.5) Un2(22.7,0)
F.SilkS:
  circle w0.254: c-21.2,-3.4 r0.25
  lines w0.254: -24.01,-2.246 -22.646,-3.61 -21.79,-3.61 -21.79,-2.91 21.79,-2.91 21.79,-3.61 24.01,-3.61 24.01,3.61 21.79,3.61 21.79,2.91 -21.79,2.91 -21.79,3.61 -24.01,3.61 -24.01,-2.246
Top Assembly:
  lines w0.254: -23.9,-2.2 -22.6,-3.5 -21.9,-3.5 -21.9,-2.8 21.9,-2.8 21.9,-3.5 23.9,-3.5 23.9,3.5 21.9,3.5 21.9,2.8 -21.9,2.8 -21.9,3.5 -23.9,3.5 -23.9,-2.2 ; -21.6,-3.5 -20.8,-3.5 -21.2,-2.86 -21.6,-3.5
  text "'.Designator'" at -4.047,-0.84 h1
Top Courtyard:
  lines w0.254: -24.4,-4 24.4,-4 24.4,4 -24.4,4 -24.4,-4
Top Designator:
  text ".Designator" at -7.618,-0.508 h1.52

## Samtec_HSEC8-150-01-X-DV_2x50_P0.8mm_Pol27_Socket [mm]
pads (100):
  rrect25% 0.5x1.2 smd: 1(-21.2,-1.7) 2(-21.2,1.7) 3(-20.4,-1.7) 4(-20.4,1.7) 5(-19.6,-1.7) 6(-19.6,1.7) 7(-18.8,-1.7) 8(-18.8,1.7) 9(-18,-1.7) 10(-18,1.7) 11(-17.2,-1.7) 12(-17.2,1.7) 13(-16.4,-1.7) 14(-16.4,1.7) 15(-15.6,-1.7) 16(-15.6,1.7) 17(-14.8,-1.7) 18(-14.8,1.7) 19(-14,-1.7) 20(-14,1.7) 21(-13.2,-1.7) 22(-13.2,1.7) 23(-12.4,-1.7) 24(-12.4,1.7) 25(-11.6,-1.7) 26(-11.6,1.7) 27(-10.8,-1.7) 28(-10.8,1.7) 29(-10,-1.7) 30(-10,1.7) 31(-9.2,-1.7) 32(-9.2,1.7) 33(-8.4,-1.7) 34(-8.4,1.7) 35(-7.6,-1.7) 36(-7.6,1.7) 37(-6.8,-1.7) 38(-6.8,1.7) 39(-6,-1.7) 40(-6,1.7) 41(-5.2,-1.7) 42(-5.2,1.7) 43(-4.4,-1.7) 44(-4.4,1.7) 45(-3.6,-1.7) 46(-3.6,1.7) 47(-2.8,-1.7) 48(-2.8,1.7) 49(-2,-1.7) 50(-2,1.7) 51(-1.2,-1.7) 52(-1.2,1.7) 53(-0.4,-1.7) 54(-0.4,1.7) 55(3.6,-1.7) 56(3.6,1.7) 57(4.4,-1.7) 58(4.4,1.7) 59(5.2,-1.7) 60(5.2,1.7) 61(6,-1.7) 62(6,1.7) 63(6.8,-1.7) 64(6.8,1.7) 65(7.6,-1.7) 66(7.6,1.7) 67(8.4,-1.7) 68(8.4,1.7) 69(9.2,-1.7) 70(9.2,1.7) 71(10,-1.7) 72(10,1.7) 73(10.8,-1.7) 74(10.8,1.7) 75(11.6,-1.7) 76(11.6,1.7) 77(12.4,-1.7) 78(12.4,1.7) 79(13.2,-1.7) 80(13.2,1.7) 81(14,-1.7) 82(14,1.7) 83(14.8,-1.7) 84(14.8,1.7) 85(15.6,-1.7) 86(15.6,1.7) 87(16.4,-1.7) 88(16.4,1.7) 89(17.2,-1.7) 90(17.2,1.7) 91(18,-1.7) 92(18,1.7) 93(18.8,-1.7) 94(18.8,1.7) 95(19.6,-1.7) 96(19.6,1.7) 97(20.4,-1.7) 98(20.4,1.7) 99(21.2,-1.7) 100(21.2,1.7)
F.SilkS:
  circle w0.254: c-21.2,-3.4 r0.25
  lines w0.254: -24.01,-2.246 -22.646,-3.61 -21.79,-3.61 -21.79,-2.91 21.79,-2.91 21.79,-3.61 24.01,-3.61 24.01,3.61 21.79,3.61 21.79,2.91 -21.79,2.91 -21.79,3.61 -24.01,3.61 -24.01,-2.246
Top Assembly:
  lines w0.254: -23.9,-2.2 -22.6,-3.5 -21.9,-3.5 -21.9,-2.8 21.9,-2.8 21.9,-3.5 23.9,-3.5 23.9,3.5 21.9,3.5 21.9,2.8 -21.9,2.8 -21.9,3.5 -23.9,3.5 -23.9,-2.2 ; -21.6,-3.5 -20.8,-3.5 -21.2,-2.86 -21.6,-3.5
  text "'.Designator'" at -4.047,-0.84 h1
Top Courtyard:
  lines w0.254: -24.4,-4 24.4,-4 24.4,4 -24.4,4 -24.4,-4
Top Designator:
  text ".Designator" at -7.618,-0.508 h1.52

## Samtec_HSEC8-150-03-X-DV-A-WT_2x50_P0.8mm_Pol27_Socket_WeldTabs [mm]
pads (104):
  rrect25% 0.5x1.2 smd: 1(-21.2,-2.095) 2(-21.2,2.095) 3(-20.4,-2.095) 4(-20.4,2.095) 5(-19.6,-2.095) 6(-19.6,2.095) 7(-18.8,-2.095) 8(-18.8,2.095) 9(-18,-2.095) 10(-18,2.095) 11(-17.2,-2.095) 12(-17.2,2.095) 13(-16.4,-2.095) 14(-16.4,2.095) 15(-15.6,-2.095) 16(-15.6,2.095) 17(-14.8,-2.095) 18(-14.8,2.095) 19(-14,-2.095) 20(-14,2.095) 21(-13.2,-2.095) 22(-13.2,2.095) 23(-12.4,-2.095) 24(-12.4,2.095) 25(-11.6,-2.095) 26(-11.6,2.095) 27(-10.8,-2.095) 28(-10.8,2.095) 29(-10,-2.095) 30(-10,2.095) 31(-9.2,-2.095) 32(-9.2,2.095) 33(-8.4,-2.095) 34(-8.4,2.095) 35(-7.6,-2.095) 36(-7.6,2.095) 37(-6.8,-2.095) 38(-6.8,2.095) 39(-6,-2.095) 40(-6,2.095) 41(-5.2,-2.095) 42(-5.2,2.095) 43(-4.4,-2.095) 44(-4.4,2.095) 45(-3.6,-2.095) 46(-3.6,2.095) 47(-2.8,-2.095) 48(-2.8,2.095) 49(-2,-2.095) 50(-2,2.095) 51(-1.2,-2.095) 52(-1.2,2.095) 53(-0.4,-2.095) 54(-0.4,2.095) 55(3.6,-2.095) 56(3.6,2.095) 57(4.4,-2.095) 58(4.4,2.095) 59(5.2,-2.095) 60(5.2,2.095) 61(6,-2.095) 62(6,2.095) 63(6.8,-2.095) 64(6.8,2.095) 65(7.6,-2.095) 66(7.6,2.095) 67(8.4,-2.095) 68(8.4,2.095) 69(9.2,-2.095) 70(9.2,2.095) 71(10,-2.095) 72(10,2.095) 73(10.8,-2.095) 74(10.8,2.095) 75(11.6,-2.095) 76(11.6,2.095) 77(12.4,-2.095) 78(12.4,2.095) 79(13.2,-2.095) 80(13.2,2.095) 81(14,-2.095) 82(14,2.095) 83(14.8,-2.095) 84(14.8,2.095) 85(15.6,-2.095) 86(15.6,2.095) 87(16.4,-2.095) 88(16.4,2.095) 89(17.2,-2.095) 90(17.2,2.095) 91(18,-2.095) 92(18,2.095) 93(18.8,-2.095) 94(18.8,2.095) 95(19.6,-2.095) 96(19.6,2.095) 97(20.4,-2.095) 98(20.4,2.095) 99(21.2,-2.095) 100(21.2,2.095)
  round 2.54 hole 0.84: Un1(-25.05,0) Un4(25.05,0)
  round 1.27 hole 1.27: Un2(-22.7,-1.5) Un3(22.7,0)
F.SilkS:
  circle w0.254: c-21.2,-3.795 r0.25
  lines w0.254: -26.31,-0.868 -26.31,-2.641 -24.946,-4.005 -21.79,-4.005 -21.79,-3.305 21.79,-3.305 21.79,-4.005 26.31,-4.005 26.31,-0.868 ; -26.31,0.868 -26.31,4.005 -21.79,4.005 -21.79,3.305 21.79,3.305 21.79,4.005 26.31,4.005 26.31,0.868
Top Assembly:
  lines w0.254: -26.2,-2.595 -24.9,-3.895 -21.9,-3.895 -21.9,-3.195 21.9,-3.195 21.9,-3.895 26.2,-3.895 26.2,3.895 21.9,3.895 21.9,3.195 -21.9,3.195 -21.9,3.895 -26.2,3.895 -26.2,-2.595 ; -21.6,-3.895 -20.8,-3.895 -21.2,-3.255 -21.6,-3.895
  text "'.Designator'" at -4.047,-0.84 h1
Top Courtyard:
  lines w0.254: -26.83,-4.4 26.83,-4.4 26.83,4.4 -26.83,4.4 -26.83,-4.4
Top Designator:
  text ".Designator" at -7.618,-0.508 h1.52

## Samtec_HSEC8-150-03-X-DV-A_2x50_P0.8mm_Pol27_Socket_AlignmentPins [mm]
pads (102):
  rrect25% 0.5x1.2 smd: 1(-21.2,-2.095) 2(-21.2,2.095) 3(-20.4,-2.095) 4(-20.4,2.095) 5(-19.6,-2.095) 6(-19.6,2.095) 7(-18.8,-2.095) 8(-18.8,2.095) 9(-18,-2.095) 10(-18,2.095) 11(-17.2,-2.095) 12(-17.2,2.095) 13(-16.4,-2.095) 14(-16.4,2.095) 15(-15.6,-2.095) 16(-15.6,2.095) 17(-14.8,-2.095) 18(-14.8,2.095) 19(-14,-2.095) 20(-14,2.095) 21(-13.2,-2.095) 22(-13.2,2.095) 23(-12.4,-2.095) 24(-12.4,2.095) 25(-11.6,-2.095) 26(-11.6,2.095) 27(-10.8,-2.095) 28(-10.8,2.095) 29(-10,-2.095) 30(-10,2.095) 31(-9.2,-2.095) 32(-9.2,2.095) 33(-8.4,-2.095) 34(-8.4,2.095) 35(-7.6,-2.095) 36(-7.6,2.095) 37(-6.8,-2.095) 38(-6.8,2.095) 39(-6,-2.095) 40(-6,2.095) 41(-5.2,-2.095) 42(-5.2,2.095) 43(-4.4,-2.095) 44(-4.4,2.095) 45(-3.6,-2.095) 46(-3.6,2.095) 47(-2.8,-2.095) 48(-2.8,2.095) 49(-2,-2.095) 50(-2,2.095) 51(-1.2,-2.095) 52(-1.2,2.095) 53(-0.4,-2.095) 54(-0.4,2.095) 55(3.6,-2.095) 56(3.6,2.095) 57(4.4,-2.095) 58(4.4,2.095) 59(5.2,-2.095) 60(5.2,2.095) 61(6,-2.095) 62(6,2.095) 63(6.8,-2.095) 64(6.8,2.095) 65(7.6,-2.095) 66(7.6,2.095) 67(8.4,-2.095) 68(8.4,2.095) 69(9.2,-2.095) 70(9.2,2.095) 71(10,-2.095) 72(10,2.095) 73(10.8,-2.095) 74(10.8,2.095) 75(11.6,-2.095) 76(11.6,2.095) 77(12.4,-2.095) 78(12.4,2.095) 79(13.2,-2.095) 80(13.2,2.095) 81(14,-2.095) 82(14,2.095) 83(14.8,-2.095) 84(14.8,2.095) 85(15.6,-2.095) 86(15.6,2.095) 87(16.4,-2.095) 88(16.4,2.095) 89(17.2,-2.095) 90(17.2,2.095) 91(18,-2.095) 92(18,2.095) 93(18.8,-2.095) 94(18.8,2.095) 95(19.6,-2.095) 96(19.6,2.095) 97(20.4,-2.095) 98(20.4,2.095) 99(21.2,-2.095) 100(21.2,2.095)
  round 1.27 hole 1.27: Un1(-22.7,-1.5) Un2(22.7,0)
F.SilkS:
  circle w0.254: c-21.2,-3.795 r0.25
  lines w0.254: -24.01,-2.641 -22.646,-4.005 -21.79,-4.005 -21.79,-3.305 21.79,-3.305 21.79,-4.005 24.01,-4.005 24.01,4.005 21.79,4.005 21.79,3.305 -21.79,3.305 -21.79,4.005 -24.01,4.005 -24.01,-2.641
Top Assembly:
  lines w0.254: -23.9,-2.595 -22.6,-3.895 -21.9,-3.895 -21.9,-3.195 21.9,-3.195 21.9,-3.895 23.9,-3.895 23.9,3.895 21.9,3.895 21.9,3.195 -21.9,3.195 -21.9,3.895 -23.9,3.895 -23.9,-2.595 ; -21.6,-3.895 -20.8,-3.895 -21.2,-3.255 -21.6,-3.895
  text "'.Designator'" at -4.047,-0.84 h1
Top Courtyard:
  lines w0.254: -24.4,-4.4 24.4,-4.4 24.4,4.4 -24.4,4.4 -24.4,-4.4
Top Designator:
  text ".Designator" at -7.618,-0.508 h1.52

## Samtec_HSEC8-150-03-X-DV_2x50_P0.8mm_Pol27_Socket [mm]
pads (100):
  rrect25% 0.5x1.2 smd: 1(-21.2,-2.095) 2(-21.2,2.095) 3(-20.4,-2.095) 4(-20.4,2.095) 5(-19.6,-2.095) 6(-19.6,2.095) 7(-18.8,-2.095) 8(-18.8,2.095) 9(-18,-2.095) 10(-18,2.095) 11(-17.2,-2.095) 12(-17.2,2.095) 13(-16.4,-2.095) 14(-16.4,2.095) 15(-15.6,-2.095) 16(-15.6,2.095) 17(-14.8,-2.095) 18(-14.8,2.095) 19(-14,-2.095) 20(-14,2.095) 21(-13.2,-2.095) 22(-13.2,2.095) 23(-12.4,-2.095) 24(-12.4,2.095) 25(-11.6,-2.095) 26(-11.6,2.095) 27(-10.8,-2.095) 28(-10.8,2.095) 29(-10,-2.095) 30(-10,2.095) 31(-9.2,-2.095) 32(-9.2,2.095) 33(-8.4,-2.095) 34(-8.4,2.095) 35(-7.6,-2.095) 36(-7.6,2.095) 37(-6.8,-2.095) 38(-6.8,2.095) 39(-6,-2.095) 40(-6,2.095) 41(-5.2,-2.095) 42(-5.2,2.095) 43(-4.4,-2.095) 44(-4.4,2.095) 45(-3.6,-2.095) 46(-3.6,2.095) 47(-2.8,-2.095) 48(-2.8,2.095) 49(-2,-2.095) 50(-2,2.095) 51(-1.2,-2.095) 52(-1.2,2.095) 53(-0.4,-2.095) 54(-0.4,2.095) 55(3.6,-2.095) 56(3.6,2.095) 57(4.4,-2.095) 58(4.4,2.095) 59(5.2,-2.095) 60(5.2,2.095) 61(6,-2.095) 62(6,2.095) 63(6.8,-2.095) 64(6.8,2.095) 65(7.6,-2.095) 66(7.6,2.095) 67(8.4,-2.095) 68(8.4,2.095) 69(9.2,-2.095) 70(9.2,2.095) 71(10,-2.095) 72(10,2.095) 73(10.8,-2.095) 74(10.8,2.095) 75(11.6,-2.095) 76(11.6,2.095) 77(12.4,-2.095) 78(12.4,2.095) 79(13.2,-2.095) 80(13.2,2.095) 81(14,-2.095) 82(14,2.095) 83(14.8,-2.095) 84(14.8,2.095) 85(15.6,-2.095) 86(15.6,2.095) 87(16.4,-2.095) 88(16.4,2.095) 89(17.2,-2.095) 90(17.2,2.095) 91(18,-2.095) 92(18,2.095) 93(18.8,-2.095) 94(18.8,2.095) 95(19.6,-2.095) 96(19.6,2.095) 97(20.4,-2.095) 98(20.4,2.095) 99(21.2,-2.095) 100(21.2,2.095)
F.SilkS:
  circle w0.254: c-21.2,-3.795 r0.25
  lines w0.254: -24.01,-2.641 -22.646,-4.005 -21.79,-4.005 -21.79,-3.305 21.79,-3.305 21.79,-4.005 24.01,-4.005 24.01,4.005 21.79,4.005 21.79,3.305 -21.79,3.305 -21.79,4.005 -24.01,4.005 -24.01,-2.641
Top Assembly:
  lines w0.254: -23.9,-2.595 -22.6,-3.895 -21.9,-3.895 -21.9,-3.195 21.9,-3.195 21.9,-3.895 23.9,-3.895 23.9,3.895 21.9,3.895 21.9,3.195 -21.9,3.195 -21.9,3.895 -23.9,3.895 -23.9,-2.595 ; -21.6,-3.895 -20.8,-3.895 -21.2,-3.255 -21.6,-3.895
  text "'.Designator'" at -4.047,-0.84 h1
Top Courtyard:
  lines w0.254: -24.4,-4.4 24.4,-4.4 24.4,4.4 -24.4,4.4 -24.4,-4.4
Top Designator:
  text ".Designator" at -7.618,-0.508 h1.52